# EAGLE library part ATMEGA328PB-AN (library SamacSys_Parts)
MICROCHIP - ATMEGA328PB-AN - MCU, 8BIT, 20MHZ, TQFP-32 Source: Datasheet <https://componentsearchengine.com/Datasheets/2/ATMEGA328PB-AN.pdf>
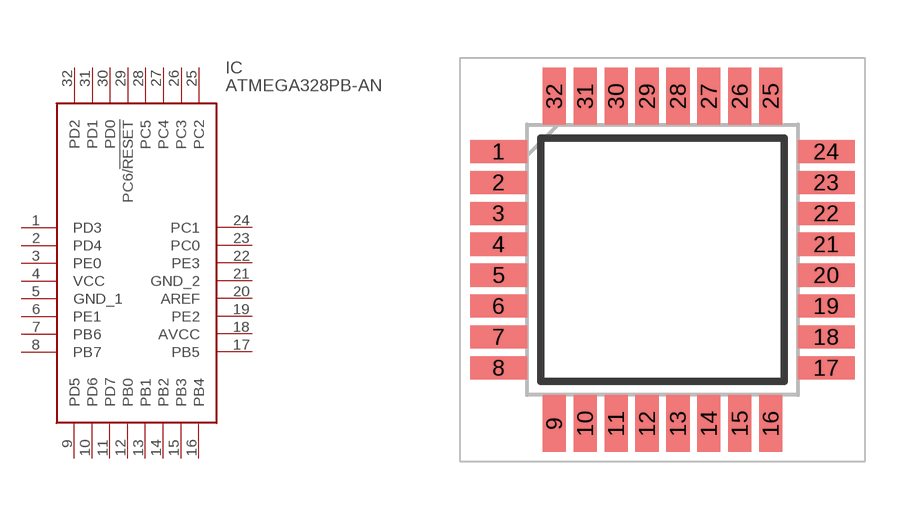
[diagram p0: symbol with the pads of QFP80P900X900X105-32N; footprint QFP80P900X900X105-32N]

Designator prefix IC

## ATMEGA328PB-AN (Arrow_Part_Number: ATMEGA328PB-AN; Arrow_Price/Stock: https://www.arrow.com/en/products/atmega328pb-an/microchip-technology; Description: MICROCHIP - ATMEGA328PB-AN - MCU, 8BIT, 20MHZ, TQFP-32; Height: 1.05mm; Manufacturer_Name: Microchip; Manufacturer_Part_Number: ATMEGA328PB-AN)  [QFP80P900X900X105-32N]
1  PD3
2  PD4
3  PE0
4  VCC  pwr
5  GND_1  pwr
6  PE1
7  PB6
8  PB7
9  PD5
10  PD6
11  PD7
12  PB0
13  PB1
14  PB2
15  PB3
16  PB4
17  PB5
18  AVCC  pwr
19  PE2
20  AREF  pwr
21  GND_2  pwr
22  PE3
23  PC0
24  PC1
25  PC2
26  PC3
27  PC4
28  PC5
29  PC6/!RESET
30  PD0
31  PD1
32  PD2

## Footprint QFP80P900X900X105-32N (pad centres in mm)
32-PIN TQFP (T32-1)
smd 1.475 x 0.6: 1 -4.238,2.8; 2 -4.238,2; 3 -4.238,1.2; 4 -4.238,0.4; 5 -4.238,-0.4; 6 -4.238,-1.2; 7 -4.238,-2; 8 -4.238,-2.8; 17 4.238,-2.8; 18 4.238,-2; 19 4.238,-1.2; 20 4.238,-0.4; 21 4.238,0.4; 22 4.238,1.2; 23 4.238,2; 24 4.238,2.8
smd 0.6 x 1.475: 9 -2.8,-4.238; 10 -2,-4.238; 11 -1.2,-4.238; 12 -0.4,-4.238; 13 0.4,-4.238; 14 1.2,-4.238; 15 2,-4.238; 16 2.8,-4.238; 25 2.8,4.238; 26 2,4.238; 27 1.2,4.238; 28 0.4,4.238; 29 -0.4,4.238; 30 -1.2,4.238; 31 -2,4.238; 32 -2.8,4.238